# Altium schematic symbol library Schlib2.SchLib: 33 symbols
Pins are listed as number, name and electrical type; pins without a type are passive.

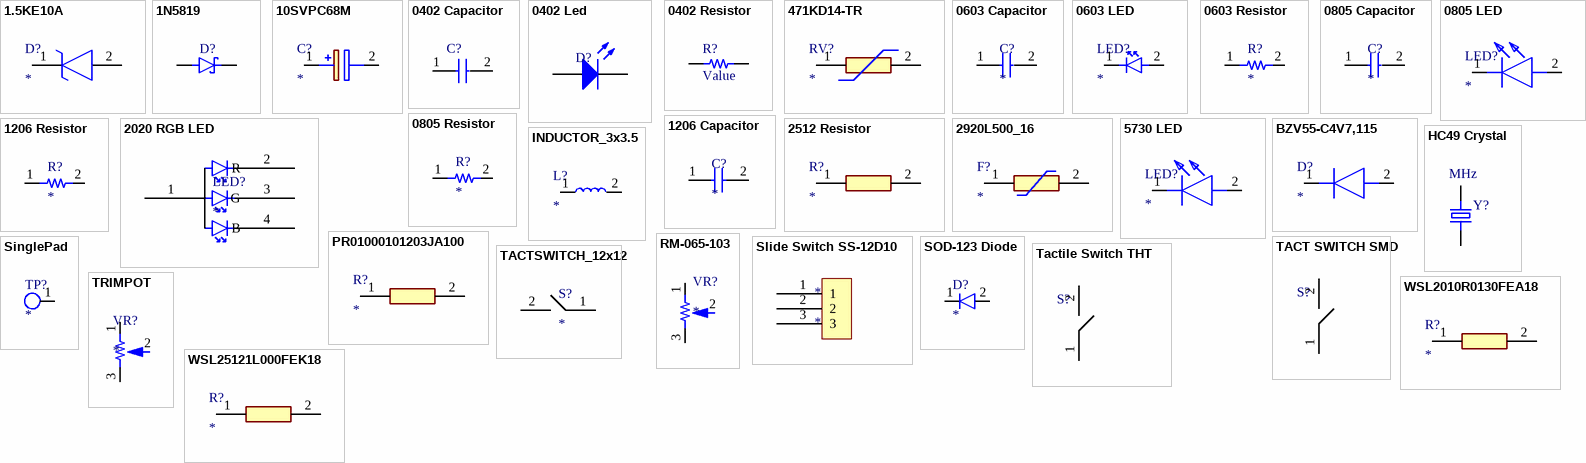
[diagram p0: symbols 1.5KE10A to WSL25121L000FEK18]

## 1.5KE10A
designator D?
TVS Diode (Uni-directional); Manufacturer_Name: STMicroelectronics; Manufacturer_Part_Number: 1.5KE10A; Datasheet Link: http://www.st.com/web/en/resource/technical/document/datasheet/CD00000663.pdf; Mouser Part Number: 511-1.5KE10A; Mouser Price/Stock: https://www.mouser.com/Search/Refine.aspx?Keyword=511-1.5KE10A; Arrow Part Number: 1.5KE10A; Arrow Price/Stock: https://www.arrow.com/en/products/1.5ke10a/stmicroelectronics
footprint DIOAD2920W106L900D505
pins: 1 K, 2 A

## 1N5819
designator D?
MF: Diodes Inc.; MP: 1N5819HW-7-F; Price: None; Package: SOD-123 Diodes Inc.; Value: *; SnapEDA_Link: https://www.snapeda.com/parts/1N5819HW-7-F/Diodes%20Inc./view-part/42272/?ref=snap; Availability: Unavailable
footprint 1N5819
pins: A, C K

## 10SVPC68M
designator C?
Capacitor Polarised; Manufacturer_Name: Panasonic; Manufacturer_Part_Number: 10SVPC68M; Datasheet Link: http://industrial.panasonic.com/cdbs/www-data/pdf/AAB8000/AAB8000C256.pdf; Height: 6mm; Mouser Part Number: 667-10SVPC68M; Mouser Price/Stock: https://www.mouser.com/Search/Refine.aspx?Keyword=667-10SVPC68M
footprint 16SVF82M
pins: 1 +, 2 -

## 0402 Capacitor
designator C?
Part Number: CL05A106MP8NUB8; Manufacturer: Samsung Electro-Mechanics; Capacitance: 10µF; Temperature Coefficient: X5R; Tolerance: ±20%; Voltage - Rated: 10V; Applications: General Purpose; ComponentLink1Description: Datasheet; ComponentLink1URL: http://www.samsungsem.com/kr/support/product-search/mlcc/CL05A106MP8NUB8.jsp; ComponentLink2Description: DigiKey Link; ComponentLink2URL: http://digikey.com/product-detail/en/samsung-electro-mechanics/CL05A106MP8NUB8/1276-6830-1-ND/5961689; Device Package: 0402 (1005 Metric); LastUpdated: 19.01.2020 16:07:13; Lifecycle Status: Active; Minimum Order: 1; Mounting Type: Surface Mount, MLCC; Operating Temperature: -55°C ~ 85°C; Package / Case: 0402 (1005 Metric); Packaging: TapeAndReel; PartId: 1758; Part Status: Active; Price: 0.08; Series: CL; Size / Dimension: 0.039" L x 0.020" W (1.00mm x 0.50mm); Supplier 1: DigiKey; Supplier Part Number 1: 1276-6830-1-ND; Thickness (Max): 0.035" (0.90mm)
footprint 0402 Cap
pins: 1, 2

## 0402 Led
designator D?
footprint 0402 Led
pins: 1 A, 2 K

## 0402 Resistor
designator R?, comment Value
Part Number: RP73PF1E10KBTD; Manufacturer: TE Connectivity Passive Product; Power (Watts): 0.1W, 1/10W; Resistance: 10 kOhms; Temperature Coefficient: ±25ppm/°C; Tolerance: ±0.1%; ComponentLink1Description: Datasheet; ComponentLink1URL: https://www.te.com/commerce/DocumentDelivery/DDEController?Action=srchrtrv&DocNm=1773272&DocType=DS&DocLang=English; ComponentLink2Description: DigiKey Link; ComponentLink2URL: http://digikey.com/product-detail/en/te-connectivity-passive-product/RP73PF1E10KBTD/A127415CT-ND/8261381; Composition: Thin Film; Device Package: 0402 (1005 Metric); Height - Seated (Max): 0.014" (0.35mm); LastUpdated: 19.01.2020 16:11:48; Lifecycle Status: Active; Minimum Order: 1; Number of Terminations: 2; Operating Temperature: -55°C ~ 155°C; Package / Case: 0402 (1005 Metric); Packaging: TapeAndReel; PartId: 2434; Part Status: Active; Price: 0.08; Series: RP73P, Holsworthy; Size / Dimension: 0.039" L x 0.020" W (1.00mm x 0.50mm); Supplier 1: DigiKey; Supplier Part Number 1: A127415CT-ND; Supplier Device Package: 0402; Value: Value
footprint 0402 Res
pins: 1, 2

## 471KD14-TR
designator RV?
Varistor; Manufacturer_Name: Yageo Group; Manufacturer_Part_Number: 471KD14-TR; Datasheet Link: https://static6.arrow.com/aropdfconversion/b1aac8989397b96a0203fe607d97a7216265e82f/14d_0.pdf; Height: 17.25mm; Mouser Part Number: 603-471KD14-TR; Mouser Price/Stock: https://www.mouser.co.uk/ProductDetail/YAGEO/471KD14-TR?qs=Zz7%252BYVVL6bEDiOAm9R67Xg%3D%3D
footprint 471KD14TR
pins: 1, 2

## 0603 Capacitor
designator C?
Capacitor; Manufacturer_Name: AVX; Manufacturer_Part_Number: 06031A120JAT2A; Datasheet Link: http://www.mouser.com/catalog/supplier/library/pdf/AVXSurfaceMountCeramic.pdf; Height: 0.9mm; Mouser Part Number: 581-06031A120J; Mouser Price/Stock: https://www.mouser.co.uk/ProductDetail/AVX/06031A120JAT2A?qs=tMrmimOZp5UsY%252BxF6dNGxQ%3D%3D; Arrow Part Number: 06031A120JAT2A; Arrow Price/Stock: https://www.arrow.com/en/products/06031a120jat2a/avx
footprint 0603 Capacitor
pins: 1, 2

## 0603 LED
designator LED?
LED; Manufacturer_Name: Wurth Elektronik; Manufacturer_Part_Number: 150060GS55040; Datasheet Link: https://katalog.we-online.de/led/datasheet/150060GS55040.pdf; Height: 0.5mm; Mouser Part Number: 710-150060GS55040; Mouser Price/Stock: https://www.mouser.com/Search/Refine.aspx?Keyword=710-150060GS55040
footprint 0603 LED
pins: 1 K, 2 A

## 0603 Resistor
designator R?
Resistor; Manufacturer_Name: TE Connectivity; Manufacturer_Part_Number: CPF0603B100RE1; Datasheet Link: http://www.farnell.com/datasheets/1786775.pdf; Height: 0.55mm; Mouser Part Number: 279-CPF0603B100RE1; Mouser Price/Stock: https://www.mouser.co.uk/ProductDetail/TE-Connectivity-Neohm/CPF0603B100RE1?qs=DfH2yQaBz6s2KWheq2AlNw%3D%3D; Arrow Part Number: CPF0603B100RE1; Arrow Price/Stock: https://www.arrow.com/en/products/cpf0603b100re1/te-connectivity
footprint 0603 Resistor
pins: 1, 2

## 0805 Capacitor
designator C?
Capacitor; Manufacturer_Name: TDK; Manufacturer_Part_Number: C3216C0G1H682J060AA; Datasheet Link: https://product.tdk.com/info/en/catalog/datasheets/mlcc_commercial_midvoltage_en.pdf; Height: 0.75mm; Mouser Part Number: 810-C3216C0G1H682J-1; Mouser Price/Stock: https://www.mouser.com/Search/Refine.aspx?Keyword=810-C3216C0G1H682J-1
footprint 0805 Capacitor
pins: 1, 2

## 0805 LED
designator LED?
LED; Manufacturer_Name: Wurth Elektronik; Manufacturer_Part_Number: 150060GS55040; Datasheet Link: https://katalog.we-online.de/led/datasheet/150060GS55040.pdf; Height: 0.5mm; Mouser Part Number: 710-150060GS55040; Mouser Price/Stock: https://www.mouser.com/Search/Refine.aspx?Keyword=710-150060GS55040
footprint 0805 LED
pins: 1 K, 2 A

## 0805 Resistor
designator R?
Resistor; Manufacturer_Name: TE Connectivity; Manufacturer_Part_Number: CPF0603B100RE1; Datasheet Link: http://www.farnell.com/datasheets/1786775.pdf; Height: 0.55mm; Mouser Part Number: 279-CPF0603B100RE1; Mouser Price/Stock: https://www.mouser.co.uk/ProductDetail/TE-Connectivity-Neohm/CPF0603B100RE1?qs=DfH2yQaBz6s2KWheq2AlNw%3D%3D; Arrow Part Number: CPF0603B100RE1; Arrow Price/Stock: https://www.arrow.com/en/products/cpf0603b100re1/te-connectivity
footprint 0805 Resistor
pins: 1, 2

## 1206 Capacitor
designator C?
Capacitor; Manufacturer_Name: TDK; Manufacturer_Part_Number: C3216C0G1H682J060AA; Datasheet Link: https://product.tdk.com/info/en/catalog/datasheets/mlcc_commercial_midvoltage_en.pdf; Height: 0.75mm; Mouser Part Number: 810-C3216C0G1H682J-1; Mouser Price/Stock: https://www.mouser.com/Search/Refine.aspx?Keyword=810-C3216C0G1H682J-1
footprint 1206 Cap
pins: 1, 2

## 1206 Resistor
designator R?
Resistor; Manufacturer_Name: Bourns; Manufacturer_Part_Number: CR1206-FX-10R0ELF; Datasheet Link: http://www.bourns.com/data/global/pdfs/CHPREZTR.pdf; Height: 0.75mm; Mouser Part Number: 652-CR1206FX-10R0ELF; Mouser Price/Stock: https://www.mouser.com/Search/Refine.aspx?Keyword=652-CR1206FX-10R0ELF; Arrow Part Number: CR1206-FX-10R0ELF; Arrow Price/Stock: https://www.arrow.com/en/products/cr1206-fx-10r0elf/bourns
footprint 1206 Resistor
pins: 1, 2

## 2020 RGB LED
designator LED?
LED; Manufacturer_Name: Foshan NationStar Optoelectronics; Manufacturer_Part_Number: FM-B2020RGBA-HG; Datasheet Link: https://datasheet.lcsc.com/szlcsc/Foshan-NationStar-Optoelectronics-FM-B2020RGBA-HG_C108793.pdf; Height: 1.1mm
footprint 20x20 RGB LED
pins: 1, 2 R, 3 G, 4 B

## 2512 Resistor
designator R?
Resistor; Manufacturer_Name: Bourns; Manufacturer_Part_Number: CR2512-F/-1R00ELF; Height: 0.75mm; Mouser Part Number: 652-CR2512-F/1R00ELF; Mouser Price/Stock: https://www.mouser.co.uk/ProductDetail/Bourns/CR2512-F-1R00ELF/?qs=W%2FMpXkg%252BdQ6b1PcPiGLK9Q%3D%3D
footprint 2512 Resistor
pins: 1, 2

## 2920L500_16
designator F?
Resettable Fuse; Manufacturer_Name: LITTELFUSE; Manufacturer_Part_Number: 2920L500/16; Datasheet Link: http://m.littelfuse.com/~/media/electronics/datasheets/resettable_ptcs/littelfuse_ptc_2920l_datasheet.pdf.pdf; Height: 1.8mm
footprint 2920L07560MR
pins: 1, 2

## 5730 LED
designator LED?
LED; Manufacturer_Name: Wurth Elektronik; Manufacturer_Part_Number: 150060GS55040; Datasheet Link: https://katalog.we-online.de/led/datasheet/150060GS55040.pdf; Height: 0.5mm; Mouser Part Number: 710-150060GS55040; Mouser Price/Stock: https://www.mouser.com/Search/Refine.aspx?Keyword=710-150060GS55040
footprint 5730 LED
pins: 1 K, 2 A

## BZV55-C4V7,115
designator D?
Diode; Manufacturer_Name: Nexperia; Manufacturer_Part_Number: BZV55-C4V7,115; Datasheet Link: https://assets.nexperia.com/documents/data-sheet/BZV55_SER.pdf; Height: 1.6mm; Mouser Part Number: 771-BZV55-C4V7-T/R; Mouser Price/Stock: https://www.mouser.co.uk/ProductDetail/Nexperia/BZV55-C4V7115?qs=me8TqzrmIYVs36t8SUgoqA%3D%3D; Arrow Part Number: BZV55-C4V7,115; Arrow Price/Stock: https://www.arrow.com/en/products/bzv55-c4v7115/nexperia?region=nac
footprint BZV55C4V7115
pins: 1 K, 2 A

## HC49 Crystal
designator Y?  value MHz
MF: ECS Inc.; MP: ECS-80-18-4XDN; Digi-Key_Part_Number: X1115-ND; Package: HC-49/US ECS International; SnapEDA_Link: https://www.snapeda.com/parts/ECS-80-18-4XDN/ECS%20Inc./view-part/49558/?ref=snap; Digi-Key_Purchase_URL: https://www.digikey.in/product-detail/en/ecs-inc/ECS-80-18-4XDN/X1115-ND/827606?utm_source=snapeda&utm_medium=aggregator&utm_campaign=symbol
footprint Crystal-HC49
pins: 1, 2

## INDUCTOR_3x3.5
designator L?
Inductor; Manufacturer_Name: Shuo Xing; Manufacturer_Part_Number: CD32-4R7M; Datasheet Link: http://aitendo3.sakura.ne.jp/aitendo_data/product_img/parts/coil/CD32/CD32.pdf; Height: 2.4mm
footprint INDUCTOR_3x3.5
pins: 1, 2

## PR01000101203JA100
designator R?
Resistor; Manufacturer_Name: Vishay; Manufacturer_Part_Number: PR01000101203JA100; Description: Vishay PR01 Series Axial Metal Film Fixed Resistor 120k +/-5% 1W +/-250ppm/C; Datasheet Link: http://www.vishay.com/docs/28729/pr010203.pdf
footprint RESAD1800W63L800D250
pins: 1, 2

## RM-065-103
designator VR?
Variable Resistor; Manufacturer_Name: Marutsu; Manufacturer_Part_Number: RM-065-103; Datasheet Link: https://www.marutsu.co.jp/contents/shop/marutsu/datasheet/RM-065.pdf; Height: 7.5mm
footprint RM065103
pins: 1 CCW, 2 WIPER, 3 CW

## SinglePad
designator TP?
footprint SinglePad1
footprint SinglePad2
pins: 1

## Slide Switch SS-12D10
designator *
footprint Slide Switch ss12d10
pins: 1, 2, 3

## SOD-123 Diode
designator D?
Diode; Manufacturer_Name: Vishay; Manufacturer_Part_Number: 1N4148W-G3-08; Datasheet Link: https://componentsearchengine.com/Datasheets/1/1N4148W-G3-08.pdf; Height: 1.35mm; Mouser Part Number: 78-1N4148W-G3-08; Mouser Price/Stock: https://www.mouser.co.uk/ProductDetail/Vishay-Semiconductors/1N4148W-G3-08?qs=uS%252BVSIFnvp46StDBB15x4Q%3D%3D; Arrow Part Number: 1N4148W-G3-08; Arrow Price/Stock: https://www.arrow.com/en/products/1n4148w-g3-08/vishay
footprint SOD123
pins: 1 K, 2 A

## TACT SWITCH SMD
designator S?
MP: B3F-1000; MF: Omron; Price: None; Package: None; Value: *; Availability: Unavailable; SnapEDA_Link: https://www.snapeda.com/parts/B3F-1000/Omron%20Electronics%20Inc-EMC%20Div/view-part/48569/?ref=snap
footprint TACT SWITCH SMD
pins: 1, 2

## Tactile Switch THT
designator S?
MP: B3F-1000; MF: Omron; Price: None; Package: None; Value: *; Availability: Unavailable; SnapEDA_Link: https://www.snapeda.com/parts/B3F-1000/Omron%20Electronics%20Inc-EMC%20Div/view-part/48569/?ref=snap
footprint Tactile Switch THT
pins: 1, 2

## TACTSWITCH_12x12
designator S?
Switch; Manufacturer_Name: Omron Electronics; Manufacturer_Part_Number: B3F-4005; Datasheet Link: http://omronfs.omron.com/en_US/ecb/products/pdf/en-b3f.pdf; Mouser Part Number: 653-B3F-4005; Mouser Price/Stock: https://www.mouser.co.uk/ProductDetail/Omron-Electronics/B3F-4005?qs=B3tblJ0Nlt%2F4UotbOU6yJQ%3D%3D; Arrow Part Number: B3F-4005; Arrow Price/Stock: https://www.arrow.com/en/products/b3f4005/omron?region=nac
footprint 12x12 Tact Switch
pins: 1, 2

## TRIMPOT
designator VR?
Variable Resistor; Manufacturer_Name: Bourns; Manufacturer_Part_Number: 3296X-1-253LF; Datasheet Link: https://www.bourns.com/pdfs/3296.pdf; Height: 10.28mm; Mouser Part Number: 652-3296X-1-253LF; Mouser Price/Stock: https://www.mouser.co.uk/ProductDetail/Bourns/3296X-1-253LF/?qs=vjljXApjgZXIAn2HCf0jBQ%3D%3D; Arrow Part Number: 3296X-1-253LF; Arrow Price/Stock: https://www.arrow.com/en/products/3296x-1-253lf/bourns
footprint 3296X1253LF
pins: 1 CCW, 2 WIPER, 3 CW

## WSL2010R0130FEA18
designator R?
Resistor; Manufacturer_Name: Vishay; Manufacturer_Part_Number: WSL2010R0130FEA18; Datasheet Link: https://www.mouser.com/datasheet/2/427/wslhigh-101698.pdf; Height: 0.889mm; Mouser Part Number: 71-WSL2010R0130FEA18; Mouser Price/Stock: https://www.mouser.com/Search/Refine.aspx?Keyword=71-WSL2010R0130FEA18; Arrow Part Number: WSL2010R0130FEA18; Arrow Price/Stock: https://www.arrow.com/en/products/wsl2010r0130fea18/vishay
footprint RESC5125X89N
pins: 1, 2

## WSL25121L000FEK18
designator R?
Resistor; Manufacturer_Name: Vishay; Manufacturer_Part_Number: WSL25121L000FEK18; Datasheet Link: https://www.vishay.com/docs/31057/wslhigh.pdf; Height: 0.889mm; Mouser Part Number: 71-WSL25121L000FEK18; Mouser Price/Stock: https://www.mouser.co.uk/ProductDetail/Vishay-Dale/WSL25121L000FEK18?qs=IGB1kkHgDMj7jjECdSc47g%3D%3D; Arrow Part Number: WSL25121L000FEK18; Arrow Price/Stock: https://www.arrow.com/en/products/wsl25121l000fek18/vishay
footprint RESC6432X89N
pins: 1, 2